# Altium footprint library User-Submitted.PCBLIB: 9 footprints
Each footprint in its own frame and in the unit in brackets; x right, y up, seen from the top. Pads: shape width x height; smd on the part's side, far side on the other; paste and mask are expansions set on the pad; w line width, h text height; cw(c..) or ccw(c..) is an arc to the next point about the centre after c.
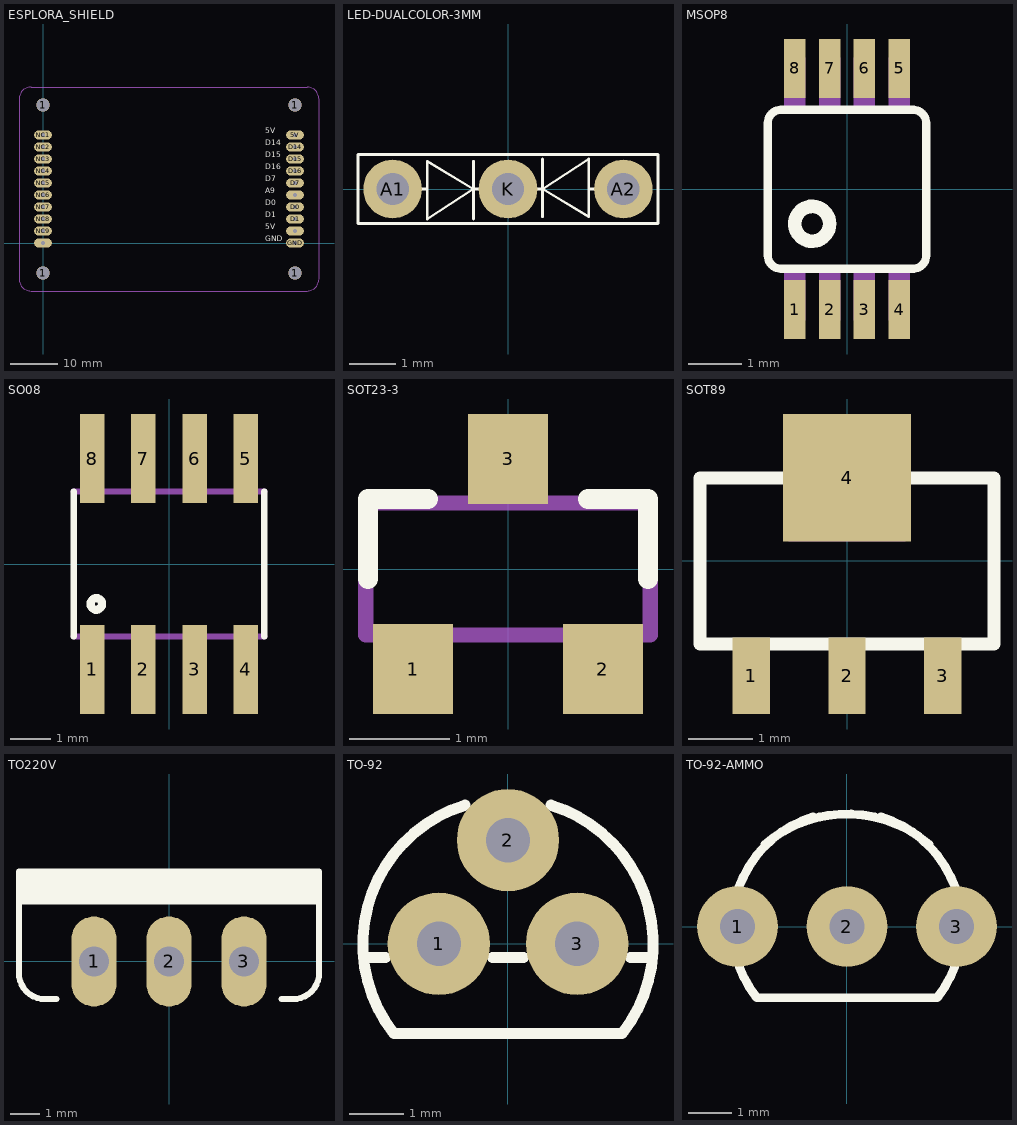
[diagram p0: the footprints below, top view; thin cyan lines are the x and y axes]

## ESPLORA_SHIELD [mil]
pads (24):
  round 110.24 hole 110.24: 1(0,-250) 1(0,1150) 1(2100,-250) 1(2100,1150)
  oval 148x74 hole 31.5: 5V(2100,900) 5V-1(2100,100) D0(2100,300) D1(2100,200) D7(2100,500) D8/A9(2100,400) D14(2100,800) D15(2100,700) D16(2100,600) GND(2100,0) NC1(0,900) NC2(0,800) NC3(0,700) NC4(0,600) NC5(0,500) NC6(0,400) NC7(0,300) NC8(0,200) NC9(0,100) NC10(0,0)
Top Overlay:
  text "5V" at 1850,900 h77.5
  text "D14" at 1850,800 h77.5
  text "D15" at 1850,700 h77.5
  text "D16" at 1850,600 h77.5
  text "D7" at 1850,500 h77.5
  text "A9" at 1850,400 h77.5
  text "D0" at 1850,300 h77.5
  text "D1" at 1850,200 h77.5
  text "5V" at 1850,100 h77.5
  text "GND" at 1850,0 h77.5
Mechanical 1:
  lines w5: -200,-300 -200,1200 cw(c-100,1200) -100,1300 2200,1300 cw(c2200,1200) 2300,1200 2300,-300 cw(c2200,-300) 2200,-400 -100,-400 cw(c-100,-300) -200,-300

## LED-DUALCOLOR-3MM [mil]
pads (3):
  round 50 hole 27.56: A1(-98.43,0) A2(98.43,0) K(0,0)
Top Overlay:
  lines w2.36: -78.74,0 -68.9,0 ; -29.53,-25.59 -29.53,0 ; -29.53,23.62 -29.53,0 ; -19.69,0 -29.53,0 ; 19.69,0 29.53,0 ; 29.53,-23.62 29.53,0 ; 29.53,25.59 29.53,0 ; 78.74,0 68.9,0 ; -68.9,0 -68.9,23.62 -29.53,0 ; -68.9,0 -68.9,-25.59 -29.53,0 ; 29.53,0 68.9,25.59 68.9,0 ; 29.53,0 68.9,-23.62 68.9,0 ; -127.95,-29.53 127.95,-29.53 127.95,29.53 -127.95,29.53 -127.95,-29.53

## MSOP8 [mil]
pads (8):
  rect 15.75x43.31 smd: 1(-38.39,-88.58) 2(-12.8,-88.58) 3(12.8,-88.58) 4(38.39,-88.58) 5(38.39,88.58) 6(12.8,88.58) 7(-12.8,88.58) 8(-38.39,88.58)
Top Overlay:
  circle w10: c-25.59,-25.59 r12.8
  lines w6: -58.27,-48.82 ccw(c-48.43,-48.82) -48.43,-58.66 ; -58.27,-48.43 -58.27,48.43 cw(c-48.43,48.43) -48.43,58.27 ; -48.03,-58.66 48.82,-58.66 ; -48.03,58.27 48.82,58.27 ; 48.43,-58.66 ccw(c48.43,-48.82) 58.27,-48.82 58.27,48.43 ccw(c48.43,48.43) 48.43,58.27
Mechanical 16:
  rectangle: -46.26,-96.46 -30.51,-61.02
  rectangle: -20.67,-96.46 -4.92,-61.02
  rectangle: 4.92,-96.46 20.67,-61.02
  rectangle: 30.51,-96.46 46.26,-61.02
  rectangle: 30.51,61.02 46.26,96.46
  rectangle: 4.92,61.02 20.67,96.46
  rectangle: -20.67,61.02 -4.92,96.46
  rectangle: -46.26,61.02 -30.51,96.46

## SO08 [mil]
pads (8):
  rect 24x87 smd: 1(-75,-103) 2(-25,-103) 3(25,-103) 4(75,-103) 5(75,103) 6(25,103) 7(-25,103) 8(-75,103)
Top Overlay:
  circle w8: c-71,-39 r5.65
  lines w6: -92.99,-70.98 -92.99,70.98 ; 92.99,-70.98 92.99,70.98
Mechanical 16:
  rectangle: -82,-113 -68,-73
  rectangle: -32,-113 -18,-73
  rectangle: 18,-113 32,-73
  rectangle: 68,-113 82,-73
  rectangle: -82,73 -68,113
  rectangle: -32,73 -18,113
  rectangle: 18,73 32,113
  rectangle: 68,73 82,113
  lines w6: -92.99,-70.98 92.99,-70.98 ; -92.99,70.98 92.99,70.98

## SOT23-3 [mil]
pads (3):
  rect 31.5x35.43 smd: 1(-37.4,-39.37) 2(37.4,-39.37) 3(0,43.31)
Top Overlay:
  lines w8: -55.12,-3.94 -55.12,27.56 -31.5,27.56 ; 31.5,27.56 55.12,27.56 55.12,-3.94
Mechanical 16:
  lines w6: -56,-26 56,-26 56,26 -56,26 -56,-26

## SOT89 [mm]
pads (4):
  rect 0.58x1.2 smd: 1(-1.5,-1.8) 2(0,-1.8) 3(1.5,-1.8)
  rect 2x2 smd: 4(0,1.3)
Top Overlay:
  lines w0.203: -2.3,-1.3 2.3,-1.3 2.3,1.3 -2.3,1.3 -2.3,-1.3
Mechanical 16:
  rectangle: -0.915,0.303 0.915,2.157
  rectangle: -1.74,-2.23 -1.26,-1.27
  rectangle: -0.24,-2.23 0.24,-1.27
  rectangle: 1.26,-2.23 1.74,-1.27

## TO220V [mil]
pads (3):
  oval 60x120 hole 40: 1(-100,0) 2(0,0) 3(100,0)
Top Overlay:
  rectangle: -200,80 200,120
  lines w8: -150,-50 -165,-50 cw(c-165.83,-15.83) -200,-15 -200,80 ; 150,-50 165,-50 ccw(c165.83,-15.83) 200,-15 200,80 ; -200,80 200,80 ; -200,80 -200,120 200,120 200,80

## TO-92 [mil]
pads (3):
  round 74 hole 32: 1(-50,0) 2(0,75) 3(50,0)
Top Overlay:
  lines w8: -104.52,-10 -88.73,-10 ; -30.96,100.33 ccw(c0,0) -82.46,-65 82.46,-65 ccw(c0,0) 30.96,100.33 ; -11.27,-10 11.27,-10 ; 88.73,-10 104.52,-10

## TO-92-AMMO [mil]
pads (3):
  round 74 hole 32: 1(-100,0) 2(0,0) 3(100,0)
Top Overlay:
  lines w8: -75,75 cw(c0,-12.5) 25,100 ; -30.96,100.33 ccw(c0,0) -82.46,-65 82.46,-65 ccw(c0,0) 30.96,100.33 ; -25,100 cw(c0,-12.5) 25,100 ; 75,75 ccw(c0,-12.5) 25,100